# Altium footprint library polulu_motor.PcbLib: 1 footprints
Each footprint in its own frame and in the unit in brackets; x right, y up, seen from the top. Pads: shape width x height; smd on the part's side, far side on the other; paste and mask are expansions set on the pad; w line width, h text height; cw(c..) or ccw(c..) is an arc to the next point about the centre after c.
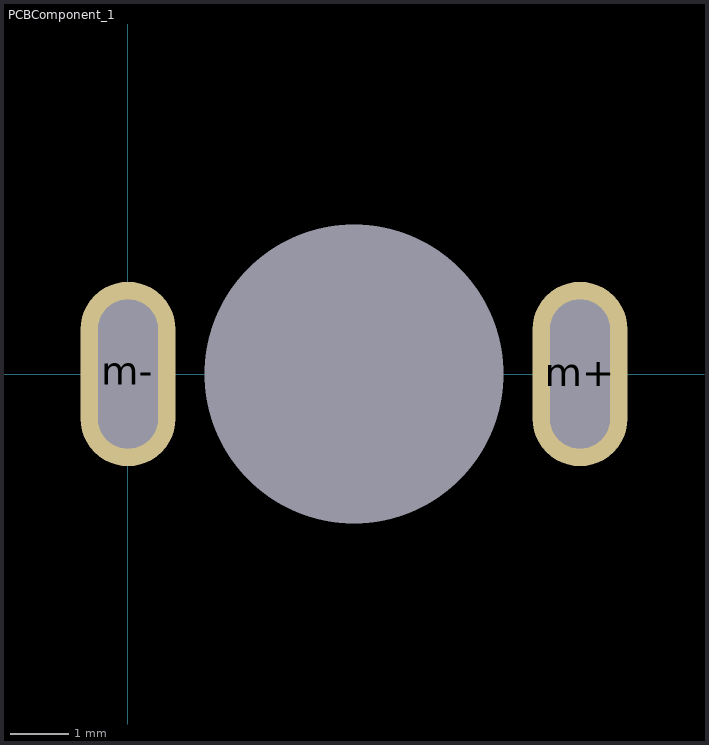
[diagram p0: the footprint, top view; thin cyan lines are the x and y axes]

## PCBComponent_1 [mm]
pads (3):
  round 0 hole 5.1: 28(3.85,0)
  rrect100% 1.62x3.14 hole 1.02 slot 2.54 at 90 deg: m+(7.7,0) m-(0,0)